# EAGLE library part TCS3472 (library awqua_eagle_library)
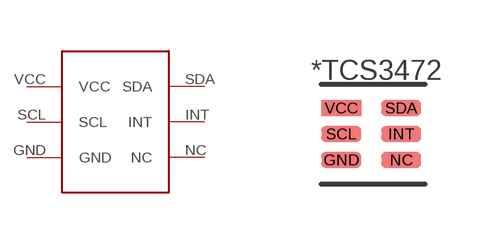
[diagram p10: symbol with the pads of TCS3472; footprint TCS3472]

Designator prefix -

## TCS3472  [TCS3472]
GND  GND
INT  INT
NC  NC
SCL  SCL
SDA  SDA
VCC  VCC

## Footprint TCS3472 (pad centres in mm)
smd 1 x 0.4: GND 0.5,0.2; INT 2,0.85; NC 2,0.2; SCL 0.5,0.85; SDA 2,1.5; VCC 0.5,1.5